# EAGLE library part 7PIN_GROUP (library edebill)
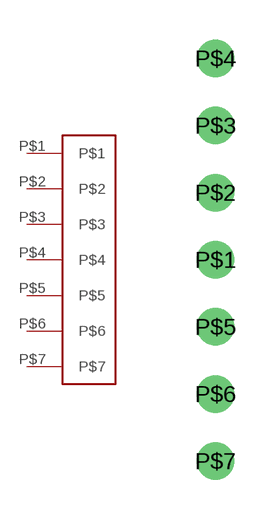
[diagram p3: symbol with the pads of 7PIN_GROUP; footprint 7PIN_GROUP]

Designator prefix -

## 7PIN_GROUP  [7PIN_GROUP]
P$1  P$1
P$2  P$2
P$3  P$3
P$4  P$4
P$5  P$5
P$6  P$6
P$7  P$7

## Footprint 7PIN_GROUP (pad centres in mm)
drill 0.8 pad 1.422 round: P$1 0,0; P$2 0,2.54; P$3 0,5.08; P$4 0,7.62; P$5 0,-2.54; P$6 0,-5.08; P$7 0,-7.62